# Altium integrated library Integrated_Library1.IntLib: 2 symbols
Pins are listed as number, name and electrical type; pins without a type are passive.

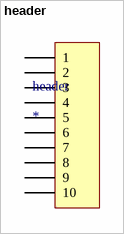
[diagram p0: symbol header]

## header
designator header
footprint header
pins: 1, 2, 3, 4, 5, 6, 7, 8, 9, 10


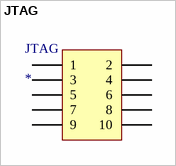
[diagram p1: symbol JTAG]

## JTAG
designator JTAG
pins: 1, 2, 3, 4, 5, 6, 7, 8, 9, 10